# Altium footprint library Oscillator.PcbLib: 1 footprints
Each footprint in its own frame and in the unit in brackets; x right, y up, seen from the top. Pads: shape width x height; smd on the part's side, far side on the other; paste and mask are expansions set on the pad; w line width, h text height; cw(c..) or ccw(c..) is an arc to the next point about the centre after c.
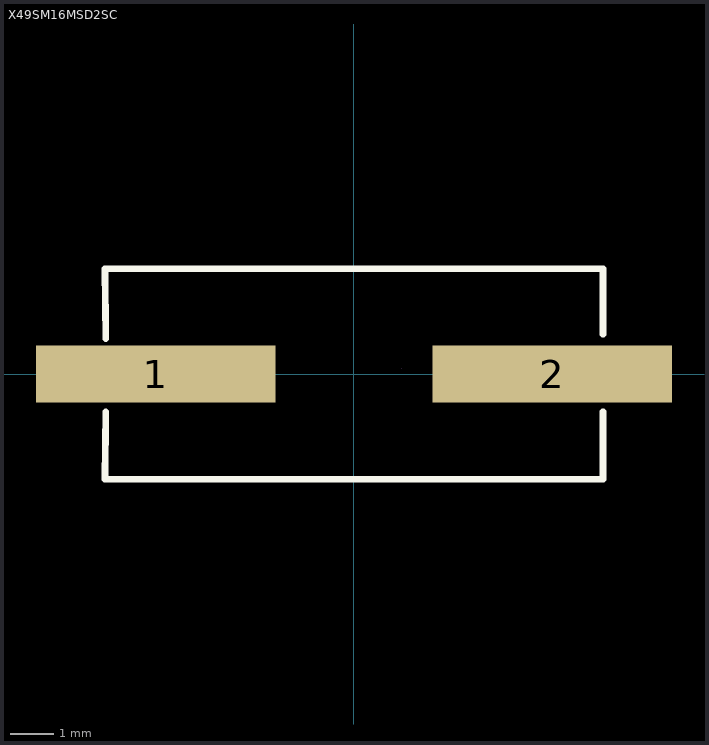
[diagram p0: the footprint, top view; thin cyan lines are the x and y axes]

## X49SM16MSD2SC [mm]
pads (2):
  rect 5.5x1.3 smd paste+0 mask+0.051: 1(-4.553,0) 2(4.553,0)
Top Overlay:
  lines w0.152: -5.702,-0.863 -5.715,-2.413 ; -5.701,0.813 -5.715,2.413 ; 5.715,-0.864 5.715,-2.413 ; 5.715,0.914 5.715,2.413 ; -5.715,-2.413 5.715,-2.413 ; -5.715,-2.413 5.715,-2.413 ; -5.715,2.413 5.715,2.413 ; -5.715,2.413 5.715,2.413
Mechanical 15:
  lines w0.003: 1.079,0.127 1.08,0.127
3D body "Crystal 12Mhz.STEP": height 4.2, standoff 0, extent -6.35,-2.375 6.35,2.325